# Altium footprint library 电容.PcbLib: 62 footprints (part 1 of 4)
Each footprint in its own frame and in the unit in brackets; x right, y up, seen from the top. Pads: shape width x height; smd on the part's side, far side on the other; paste and mask are expansions set on the pad; w line width, h text height; cw(c..) or ccw(c..) is an arc to the next point about the centre after c.
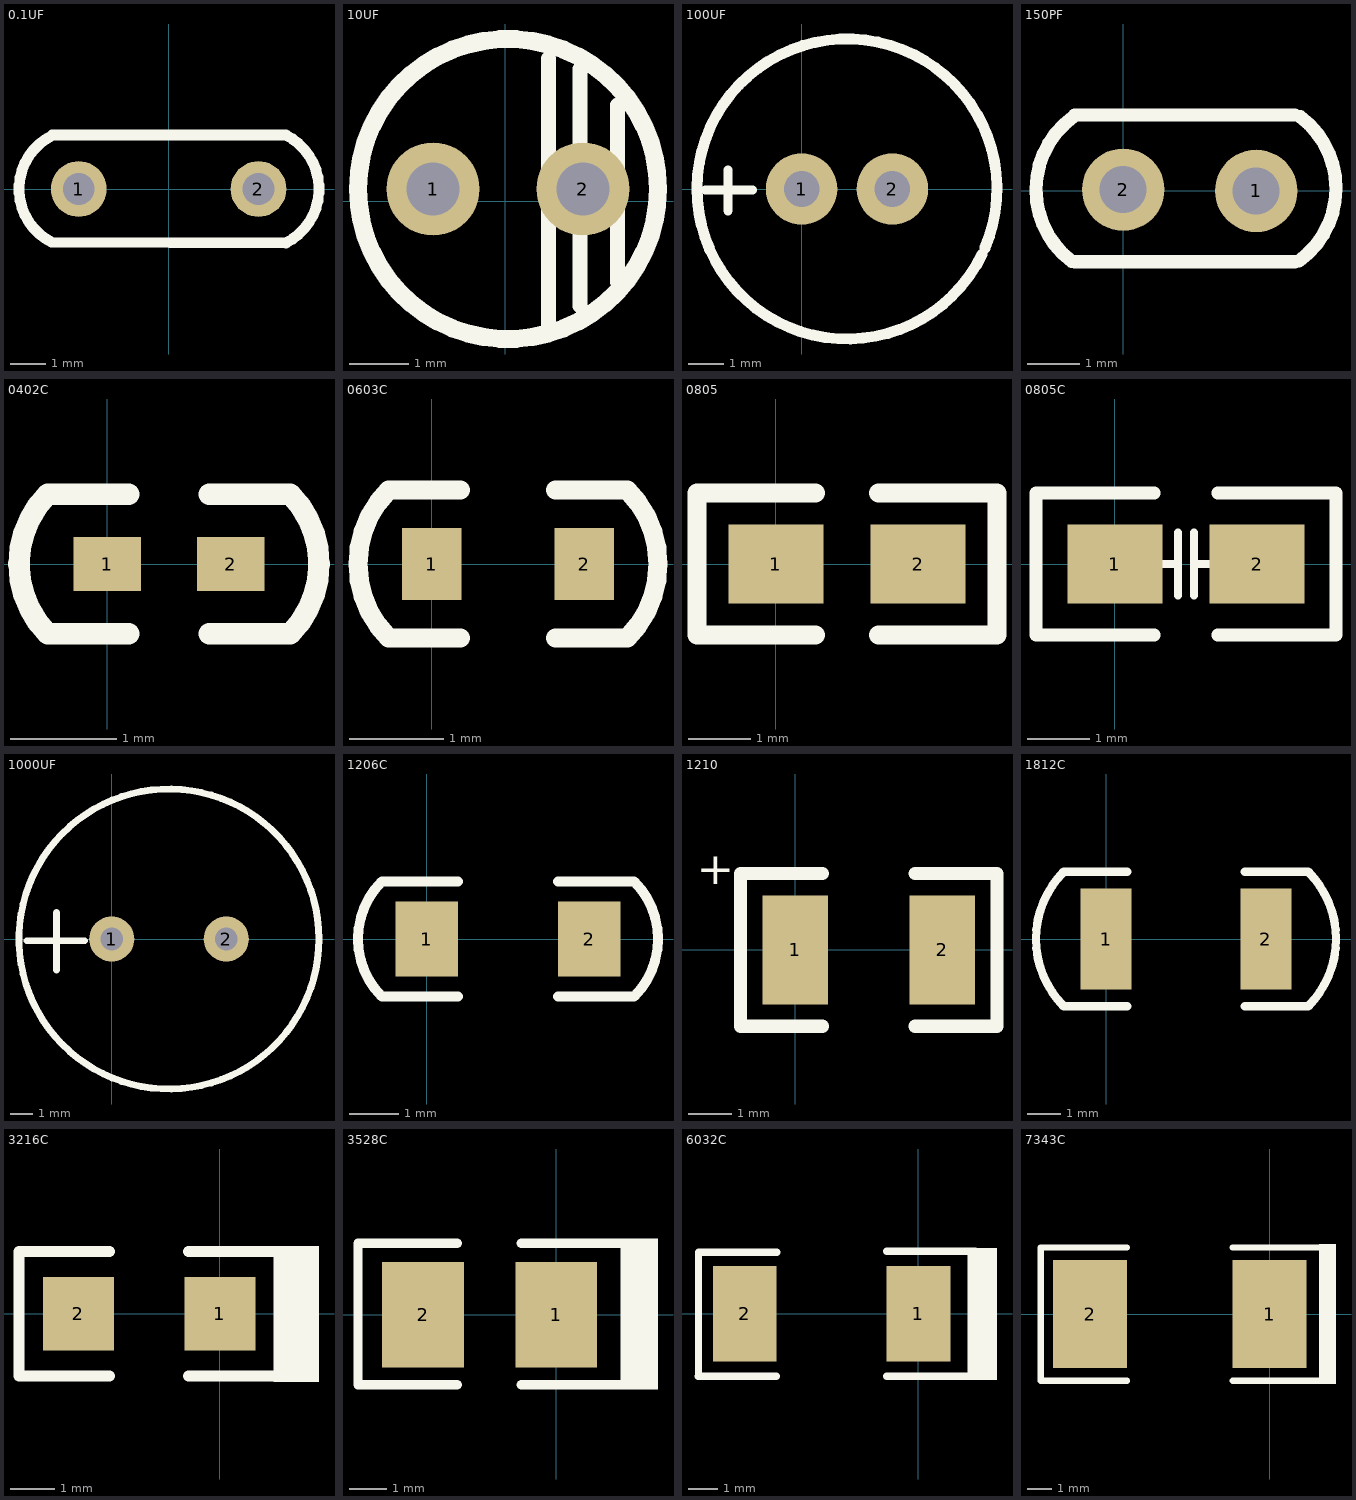
[diagram p0: the footprints below, top view; thin cyan lines are the x and y axes]

## 0.1UF [mil]
pads (2):
  round 62 hole 35.43: 1(-100,0) 2(100,0)
Top Overlay:
  lines w12: -130.04,59.28 ccw(c-100,0) -130.04,-59.28 130.54,-59.99 ccw(c100,0) 130.54,59.99 -129.42,60.22

## 10UF [mil]
pads (2):
  round 62 hole 35.43: 1(-48,8) 2(52,8)
Top Overlay:
  circle w12: c2,8 r100
  lines w10: 29,-85 29,95 ; 50,-70 50,88 ; 75,-54 75,64

## 100UF [mm]
pads (2):
  round 2 hole 1: 1(0,0) 2(2.54,0)
Top Overlay:
  lines w0.254: -2.692,-0.025 -1.372,-0.025 ; -2.057,-0.61 -2.057,0.533
  lines w0.305: 5.049,-1.834 cw(c1.27,0) 5.129,-1.658

## 150PF [mil]
pads (2):
  round 62 hole 35.43: 1(100,0) 2(0,1)
Top Overlay:
  lines w10: -38.7,-52.9 cw(c1.97,1) -37.75,55.6 ; -36.42,-53.15 128.94,-53.15 ; -36.42,57.09 128.94,57.09 ; 132.24,-52.64 ccw(c92.52,1.95) 133.18,55.85

## 0402C [mil]
pads (2):
  rect 25x20 smd: 1(0,0) 2(46,0)
Top Overlay:
  lines w8: 8,-26 -22,-26 cw(c4,0) -22,26 8,26 ; 38,-26 68,-26 ccw(c42,0) 68,26 38,26

## 0603C [mil]
pads (2):
  rect 25x30 smd: 1(0,0) 2(64,0)
Top Overlay:
  lines w8: 12,-31 -18,-31 cw(c13,0) -18,31 12,31 ; 52,-31 82,-31 ccw(c51,0) 82,31 52,31

## 0805 [mil]
pads (2):
  rect 60x50 smd: 1(0,0) 2(90,0)
Top Overlay:
  lines w12: 25,-45 -50,-45 -50,45 25,45 ; 65,-45 140,-45 140,45 65,45

## 0805C [mil]
pads (2):
  rect 60x50 smd: 1(0,0) 2(90,0)
Top Overlay:
  lines w5: 30,0 40,0 ; 40,-20 40,20 ; 50,-20 50,20 ; 50,0 60,0
  lines w8: 25,-45 -50,-45 -50,45 25,45 ; 65,-45 140,-45 140,45 65,45

## 1000UF [mm]
pads (2):
  round 2 hole 1: 1(0,0) 2(5.08,0)
Top Overlay:
  circle w0.305: c2.54,0 r6.65
  lines w0.305: -3.747,-0.076 -1.207,-0.076 ; -2.447,-1.371 -2.447,1.169

## 1206C [mil]
pads (2):
  rect 50x60 smd: 1(0,0) 2(130,0)
Top Overlay:
  lines w8: 25,-46 -36,-46 cw(c10,0) -36,46 25,46 ; 105,-46 166,-46 ccw(c120,0) 166,46 105,46

## 1210 [mil]
pads (2):
  rect 60x100 smd: 1(0,0) 2(135,0)
Top Overlay:
  lines w12: 25,-70 -50,-70 -50,70 25,70 ; 110,-70 185,-70 185,70 110,70
  text "+" at -90,60 h30

## 1812C [mil]
pads (2):
  rect 60x120 smd: 1(0,0) 2(190,0)
Top Overlay:
  lines w10: 25,-80 -50,-80 cw(c30,0) -50,80 25,80 ; 165,-80 240,-80 ccw(c160,0) 240,80 165,80

## 3216C [mm]
pads (2):
  rect 1.6x1.65 smd: 1(0,0) 2(-3.175,0)
Top Overlay:
  rectangle: 1.206,-1.537 2.222,1.524
  lines w0.254: -2.476,-1.397 -4.508,-1.397 -4.508,1.397 -2.476,1.397 ; -0.699,-1.397 1.206,-1.397 ; -0.699,1.397 1.206,1.397

## 3528C [mm]
pads (2):
  rect 2.2x2.85 smd: 1(0,0) 2(-3.581,0)
Top Overlay:
  rectangle: 1.727,-2.015 2.743,2.057
  lines w0.254: -2.667,-1.88 -5.334,-1.88 -5.334,1.93 -2.667,1.93 ; -0.94,-1.88 1.727,-1.88 ; -0.94,1.93 1.727,1.93

## 6032C [mm]
pads (2):
  rect 2.2x3.3 smd: 1(0,0) 2(-6,0)
Top Overlay:
  rectangle: 1.699,-2.29 2.715,2.28
  lines w0.254: -7.605,-2.159 -4.905,-2.159 ; -7.6,-2.133 -7.6,2.133 -4.9,2.133 ; -1.095,-2.159 1.831,-2.159 ; -1.095,2.159 1.958,2.159

## 7343C [mm]
pads (2):
  rect 3x4.4 smd: 1(0,0) 2(-7.3,0)
Top Overlay:
  rectangle: 2.008,-2.835 2.7,2.845
  lines w0.254: -5.8,-2.708 -9.308,-2.708 -9.308,2.708 -5.8,2.708 ; -1.5,-2.708 2.008,-2.708 ; -1.5,2.708 2.008,2.708